# EAGLE library part 750312504 (library WE-FLYLT)
WE-FLYLT Flyback Transformers for Linear Technology Characteristics Characteristics Low leakage inductance High saturation current for low-power, DC/DC transformers Self-shielding and space efficient Functional insulation Isolation voltage: Up to 1875VAC at 1 second Lead free and RoHS compliant Operating temp: -40°C to 125°C Package sizes: EP7, EP10, EP13 and ETD34 Designed to meet IEC/UL/EN60950-1 Applications Industrial & medical power supplies Isolated auxiliary/housekeeping power supplies Isolated DC/DC supplies Home automation <https://www.we-online.com/catalog/media/o718711v209%20family-WE-UtFLYLT.jpg> Details see: www.we-online.com/catalog/WE-FLYLT <www.we-online.com/catalog/WE-FLYLT/?utm_source=eagle_model&utm_medium=description_link&utm_campaign=eisos_eagle> Created by Ella Wu 2022-11-17 2022 (C) Wurth Elektronik
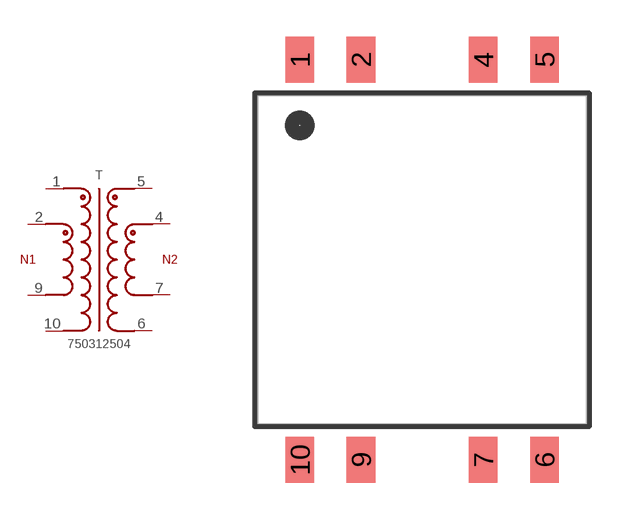
[diagram p23: symbol with the pads of WE-FLYLT_EP13_2381; footprint WE-FLYLT_EP13_2381]

Designator prefix T

## 750312504 (DATASHEET-URL: https://www.we-online.com/redexpert/spec/750312504?ae; IC-REFERENCE: LTC3300; IOUT1: 250mA; ISAT: 10.2A; L: 3.46uH; LS: 0.12uH; MOUNT: SMT; N: 1:1; PART-NUMBER: 750312504; SIZE: EP13; VALUE: 750312504; VIN: 2 - 5.5 V (DC); VOUT1: 20V; VT: 500V (AC))  [WE-FLYLT_EP13_2381]
1  1  pas
2  2  pas
4  4  pas
5  5  pas
6  6  pas
7  7  pas
9  9  pas
10  10  pas

## Footprint WE-FLYLT_EP13_2381 (pad centres in mm)
WE-FLYLT Flyback Transformers for Linear Technology Size: EP13,SMT,10pins Bobbin: 070-2381
smd 1.17 x 1.88: 1 -5,8.18; 2 -2.5,8.18; 4 2.5,8.18; 5 5,8.18; 6 5,-8.18; 7 2.5,-8.18; 9 -2.5,-8.18; 10 -5,-8.18